# EAGLE library part PINHD-2X25 (library pinhead)
PIN HEADER
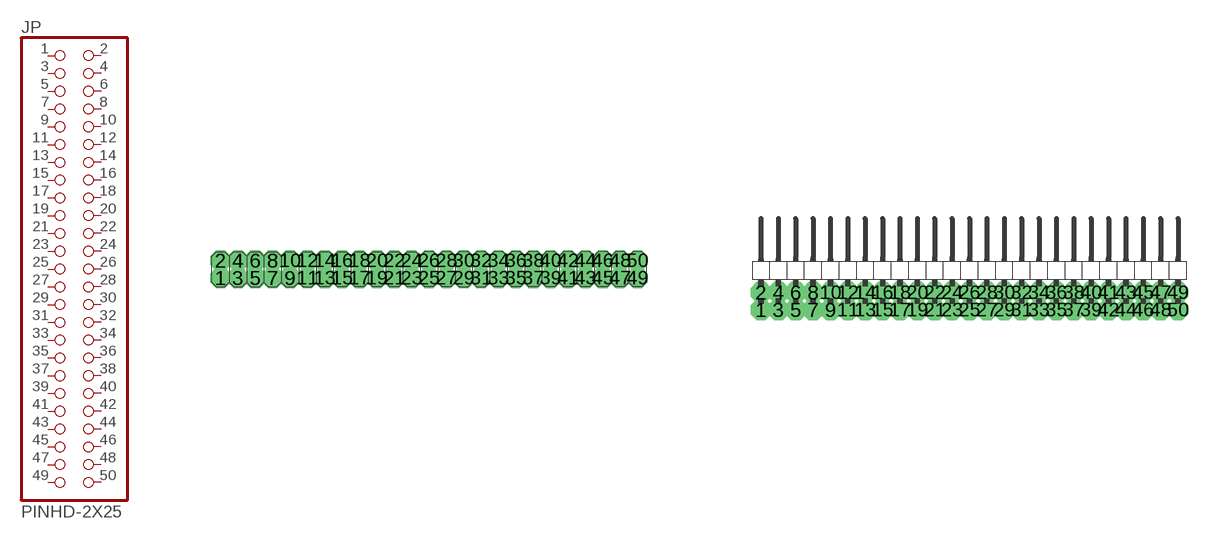
[diagram p40: symbol with the pads of 2X25; footprints 2X25, 2X25/90]

Designator prefix JP

## PINHD-2X25  [2X25]
1  1  pas
2  2  pas
3  3  pas
4  4  pas
5  5  pas
6  6  pas
7  7  pas
8  8  pas
9  9  pas
10  10  pas
11  11  pas
12  12  pas
13  13  pas
14  14  pas
15  15  pas
16  16  pas
17  17  pas
18  18  pas
19  19  pas
20  20  pas
21  21  pas
22  22  pas
23  23  pas
24  24  pas
25  25  pas
26  26  pas
27  27  pas
28  28  pas
29  29  pas
30  30  pas
31  31  pas
32  32  pas
33  33  pas
34  34  pas
35  35  pas
36  36  pas
37  37  pas
38  38  pas
39  39  pas
40  40  pas
41  41  pas
42  42  pas
43  43  pas
44  44  pas
45  45  pas
46  46  pas
47  47  pas
48  48  pas
49  49  pas
50  50  pas

## PINHD-2X25/90  [2X25/90]
Pads as for 2X25

## PINHD-2X25_57102-F08-25  [57102-F08-25]
Pads as for 2X25

## Footprint 2X25 (pad centres in mm)
PIN HEADER
drill 0.254 octagon: 1 -7.62,-0.318; 2 -7.62,0.318; 3 -6.985,-0.318; 4 -6.985,0.318; 5 -6.35,-0.318; 6 -6.35,0.318; 7 -5.715,-0.318; 8 -5.715,0.318; 9 -5.08,-0.318; 10 -5.08,0.318; 11 -4.445,-0.318; 12 -4.445,0.318; 13 -3.81,-0.318; 14 -3.81,0.318; 15 -3.175,-0.318; 16 -3.175,0.318; 17 -2.54,-0.318; 18 -2.54,0.318; 19 -1.905,-0.318; 20 -1.905,0.318; 21 -1.27,-0.318; 22 -1.27,0.318; 23 -0.635,-0.318; 24 -0.635,0.318; 25 0,-0.318; 26 0,0.318; 27 0.635,-0.318; 28 0.635,0.318; 29 1.27,-0.318; 30 1.27,0.318; 31 1.905,-0.318; 32 1.905,0.318; 33 2.54,-0.318; 34 2.54,0.318; 35 3.175,-0.318; 36 3.175,0.318; 37 3.81,-0.318; 38 3.81,0.318; 39 4.445,-0.318; 40 4.445,0.318; 41 5.08,-0.318; 42 5.08,0.318; 43 5.715,-0.318; 44 5.715,0.318; 45 6.35,-0.318; 46 6.35,0.318; 47 6.985,-0.318; 48 6.985,0.318; 49 7.62,-0.318; 50 7.62,0.318

## Footprint 2X25/90 (pad centres in mm)
PIN HEADER
drill 0.254 octagon: 1 -7.303,-1.587; 2 -7.303,-0.953; 3 -6.668,-1.587; 4 -6.668,-0.953; 5 -6.032,-1.587; 6 -6.032,-0.953; 7 -5.397,-1.587; 8 -5.397,-0.953; 9 -4.763,-1.587; 10 -4.763,-0.953; 11 -4.128,-1.587; 12 -4.128,-0.953; 13 -3.493,-1.587; 14 -3.493,-0.953; 15 -2.857,-1.587; 16 -2.857,-0.953; 17 -2.223,-1.587; 18 -2.223,-0.953; 19 -1.587,-1.587; 20 -1.587,-0.953; 21 -0.953,-1.587; 22 -0.953,-0.953; 23 -0.318,-1.587; 24 -0.318,-0.953; 25 0.318,-1.587; 26 0.318,-0.953; 27 0.953,-1.587; 28 0.953,-0.953; 29 1.587,-1.587; 30 1.587,-0.953; 31 2.223,-1.587; 32 2.223,-0.953; 33 2.857,-1.587; 34 2.857,-0.953; 35 3.493,-1.587; 36 3.493,-0.953; 37 4.128,-1.587; 38 4.128,-0.953; 39 4.763,-1.587; 40 4.763,-0.953; 41 5.397,-0.953; 42 5.397,-1.587; 43 6.032,-0.953; 44 6.032,-1.587; 45 6.668,-0.953; 46 6.668,-1.587; 47 7.303,-0.953; 48 7.303,-1.587; 49 7.938,-0.953; 50 7.938,-1.587

## Footprint 57102-F08-25 (pad centres in mm)
UNSH HEADER 2.0mm VERTICAL TMT Source: https://portal.fciconnect.com/res/en/pdffiles/doc_search/57102.pdf
drill 0.2 pad 0.356: 1 -2.25,-0.25; 2 -2.25,0.25; 3 -1.75,-0.25; 4 -1.75,0.25; 5 -1.25,-0.25; 6 -1.25,0.25; 7 -0.75,-0.25; 8 -0.75,0.25; 9 -0.25,-0.25; 10 -0.25,0.25; 11 0.25,-0.25; 12 0.25,0.25; 13 0.75,-0.25; 14 0.75,0.25; 15 1.25,-0.25; 16 1.25,0.25; 17 1.75,-0.25; 18 1.75,0.25; 19 2.25,-0.25; 20 2.25,0.25; 21 2.75,-0.25; 22 2.75,0.25; 23 3.25,-0.25; 24 3.25,0.25; 25 3.75,-0.25; 26 3.75,0.25; 27 4.25,-0.25; 28 4.25,0.25; 29 4.75,-0.25; 30 4.75,0.25; 31 5.25,-0.25; 32 5.25,0.25; 33 5.75,-0.25; 34 5.75,0.25; 35 6.25,-0.25; 36 6.25,0.25; 37 6.75,-0.25; 38 6.75,0.25; 39 7.25,-0.25; 40 7.25,0.25; 41 7.75,-0.25; 42 7.75,0.25; 43 8.25,-0.25; 44 8.25,0.25; 45 8.75,-0.25; 46 8.75,0.25; 47 9.25,-0.25; 48 9.25,0.25; 49 9.75,-0.25; 50 9.75,0.25